# Altium schematic symbol library Power_Bank.SchLib: 2 symbols
Pins are listed as number, name and electrical type; pins without a type are passive.

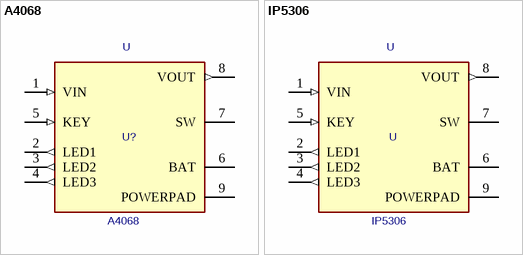
[diagram p0: symbols A4068 to IP5306]

## A4068
designator U?  value A4068  Reference: U  (hidden comment: *)
BATTERY MANAGEMENT HIGHLY INTEGTATED BATTERY POWER SOC w/ 2.1A CHARGE and 2.4A DISCHARGE CAPABILITY; ki_keywords: The A4068 is a highly integrated power management system on chip (SoC) designed for portable power bank applications. It integrates a synchronous boost A4068; Footprint: Package_SO:SOIC-8-1EP_3.9x4.9mm_P1.27mm_EP2.29x3mm; Datasheet: https://www.lcsc.com/product-detail/C181692.html; Description_: BATTERY MANAGEMENT HIGHLY INTEGTATED BATTERY POWER SOC w/ 2.1A CHARGE and 2.4A DISCHARGE CAPABILITY; DNP: *
footprint SOIC-8-1EP_3.9x4.9mm_P1.27mm_EP2.29x3mm
pins: 1 VIN (in), 2 LED1 (out), 3 LED2 (out), 4 LED3 (out), 5 KEY (in), 6 BAT, 7 SW, 8 VOUT (out), 9 POWERPAD (power)

## IP5306
designator U  value IP5306  Reference: U  (hidden comment: *)
2.1A Charging 2.4 A Highly integrated mobile power discharge SOC; ki_keywords: 2.1A Charging 2.4 A Highly integrated mobile power discharge SOC IP5306; Footprint: Package_SO:SOIC-8-1EP_3.9x4.9mm_P1.27mm_EP2.29x3mm; Datasheet: https://www.lcsc.com/product-detail/C181692.html; Description_: 2.1A Charging 2.4 A Highly integrated mobile power discharge SOC; DNP: *
footprint SOIC-8-1EP_3.9x4.9mm_P1.27mm_EP2.29x3mm
pins: 1 VIN (in), 2 LED1 (out), 3 LED2 (out), 4 LED3 (out), 5 KEY (in), 6 BAT, 7 SW, 8 VOUT (out), 9 POWERPAD (power)